# EAGLE library part BABYBOOMER (library Backoffice Library)
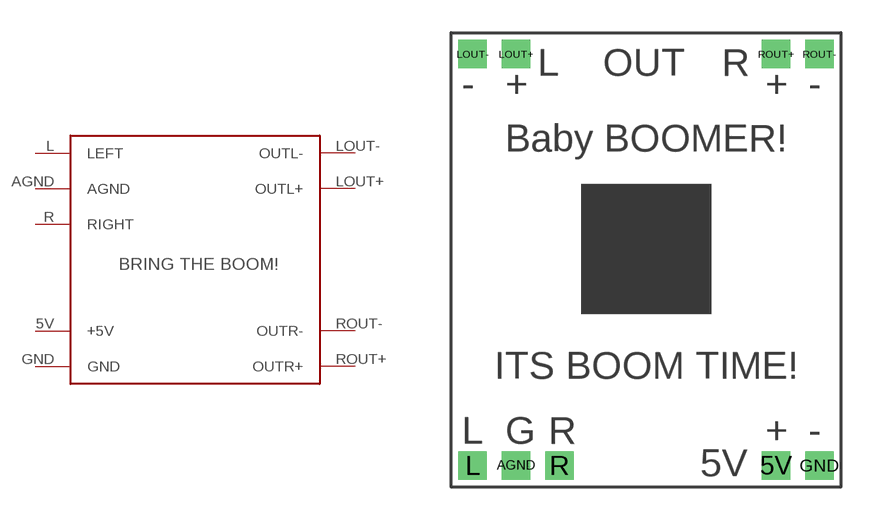
[diagram p0: symbol with the pads of BABYBOOMERMODULE; footprint BABYBOOMERMODULE]

Designator prefix -

## BABYBOOMER  [BABYBOOMERMODULE]
5V  +5V
AGND  AGND
GND  GND
L  LEFT
LOUT+  OUTL+
LOUT-  OUTL-
R  RIGHT
ROUT+  OUTR+
ROUT-  OUTR-

## Footprint BABYBOOMERMODULE (pad centres in mm)
drill 0.8 square: 5V 6,-10; AGND -6,-10; GND 8,-10; L -8,-10; LOUT+ -6,9; LOUT- -8,9; R -4,-10; ROUT+ 6,9; ROUT- 8,9